# EAGLE library part MIC23450 (library pandaLight)
high-efficiency, 3 MHz, triple 2A, buck regulator
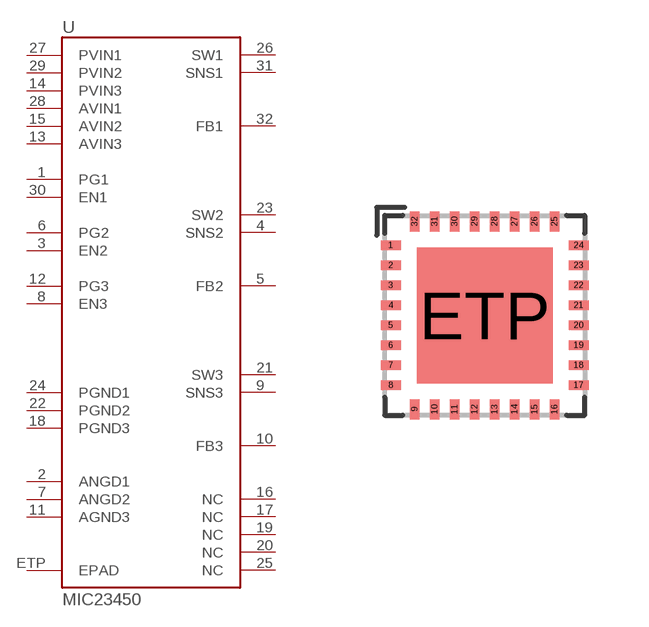
[diagram p13: symbol with the pads of QFN-32-5X5; footprint QFN-32-5X5]

Designator prefix U

## MIC23450AAAYML  [QFN-32-5X5]
1  PG1  in
2  ANGD1  pwr
3  EN2  in
4  SNS2  in
5  FB2  out
6  PG2  in
7  ANGD2  pwr
8  EN3  in
9  SNS3  in
10  FB3  out
11  AGND3  pwr
12  PG3  in
13  AVIN3  pwr
14  PVIN3  pwr
15  AVIN2  pwr
16  NC  nc
17  NC  nc
18  PGND3  pwr
19  NC  nc
20  NC  nc
21  SW3  out
22  PGND2  pwr
23  SW2  out
24  PGND1  pwr
25  NC  nc
26  SW1  out
27  PVIN1  pwr
28  AVIN1  pwr
29  PVIN2  pwr
30  EN1  in
31  SNS1  in
32  FB1  out
ETP  EPAD  pwr

## Footprint QFN-32-5X5 (pad centres in mm)
smd 0.5 x 0.23: 1 -2.35,1.75; 2 -2.35,1.25; 3 -2.35,0.75; 4 -2.35,0.25; 5 -2.35,-0.25; 6 -2.35,-0.75; 7 -2.35,-1.25; 8 -2.35,-1.75; 17 2.35,-1.75; 18 2.35,-1.25; 19 2.35,-0.75; 20 2.35,-0.25; 21 2.35,0.25; 22 2.35,0.75; 23 2.35,1.25; 24 2.35,1.75
smd 0.23 x 0.5: 9 -1.75,-2.35; 10 -1.25,-2.35; 11 -0.75,-2.35; 12 -0.25,-2.35; 13 0.25,-2.35; 14 0.75,-2.35; 15 1.25,-2.35; 16 1.75,-2.35; 25 1.75,2.35; 26 1.25,2.35; 27 0.75,2.35; 28 0.25,2.35; 29 -0.25,2.35; 30 -0.75,2.35; 31 -1.25,2.35; 32 -1.75,2.35
smd 3.4 x 3.4: ETP 0,0